# Altium schematic symbol library kmilo17pet-NSC_Interface.SchLib: 1433 symbols (part 44 of 51)
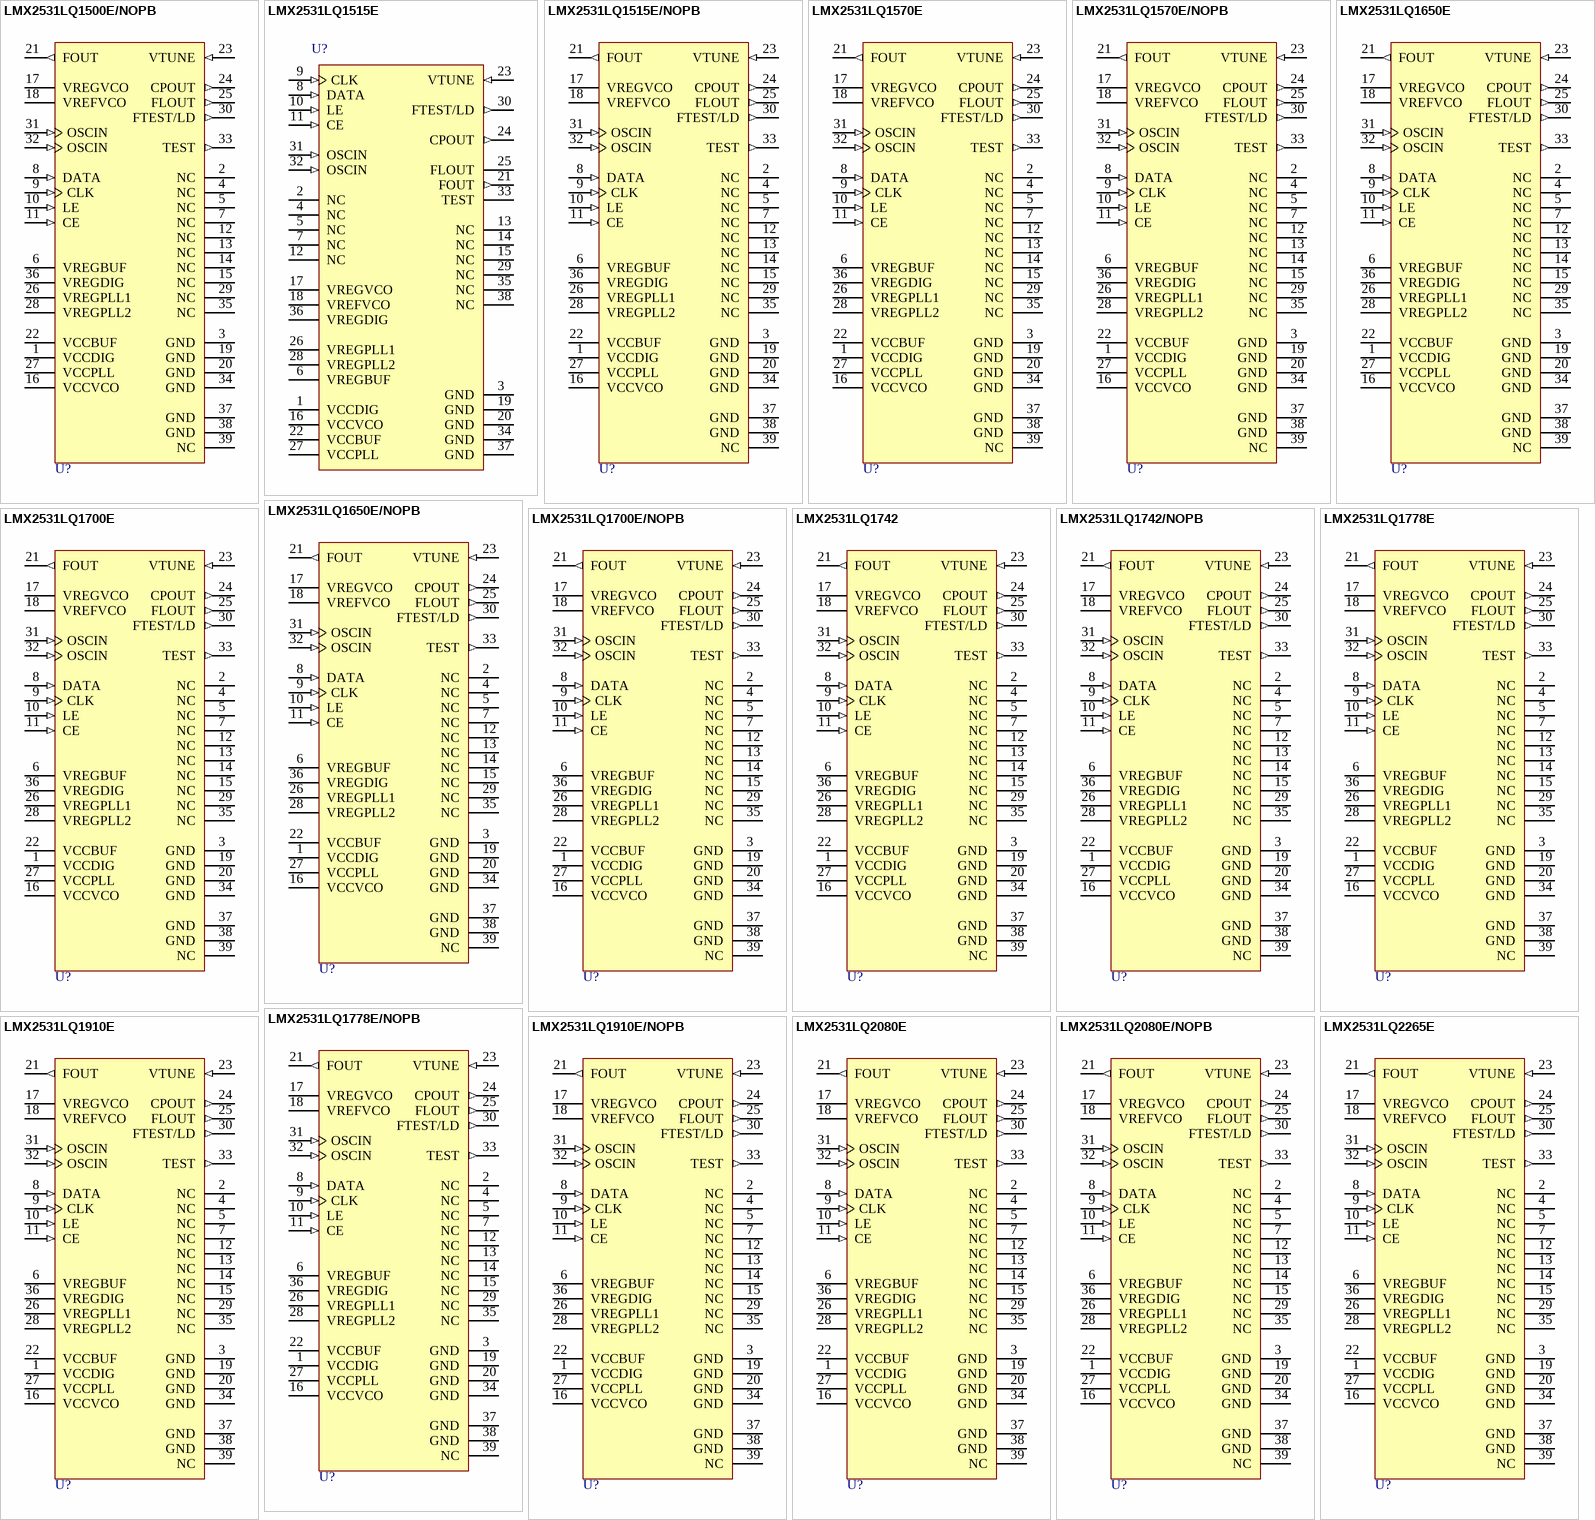
[diagram p167: symbols LMX2531LQ1500E/NOPB to LMX2531LQ2265E]

## LMX2531LQ1515E/NOPB
designator U?
High Performance Frequency Synthesizer System with Integrated VCO, 36-pin LLP, Pb-Free; PartNumber: LMX2531LQ1515E/NOPB; Manufacturer: National Semiconductor; PackageTopMarking: NS*UZXYTTE#*311515E; PowerWise: Y; CompType: Interface IC; DatasheetVersion: Dec-2009; PackageVersion: revC, Oct-2003; PackageReference: LQA36A; PackageDescription: LLP, Plastic, Quad, 6 x 6 x 0.8mm Body, 36 Lead, 0.5mm Pitch, Custom; RoHS: Y; PinCount: 36; High-Reliability: Y; ComponentLink1Description: Manufacturer URL; ComponentLink1URL: http://www.national.com/; ComponentLink2Description: LMX2531 Datasheet; ComponentLink2URL: http://www.national.com/ds/LM/LMX2531.pdf; ComponentLink3Description: LMX2531 Web Page; ComponentLink3URL: http://www.national.com/pf/LM/LMX2531.html; ComponentLink4Description: LQA36D Package Page; ComponentLink4URL: http://www.national.com/packaging/folders/lqa36d.html
footprint LQA36A (PQFN, 36-Leads, Body 6x6mm, Pitch 0.5mm, NSC Recommended)
pins: 1 VCCDIG (power), 2 NC, 3 GND (power), 4 NC, 5 NC, 6 VREGBUF (power), 7 NC, 8 DATA (in), 9 CLK (in), 10 LE (in), 11 CE (in), 12 NC, 13 NC, 14 NC, 15 NC, 16 VCCVCO (power), 17 VREGVCO (power), 18 VREFVCO (power), 19 GND (power), 20 GND (power), 21 FOUT (out), 22 VCCBUF (power), 23 VTUNE (in), 24 CPOUT (out), 25 FLOUT (out), 26 VREGPLL1 (power), 27 VCCPLL (power), 28 VREGPLL2 (power), 29 NC, 30 FTEST/LD (out), 31 OSCIN (in), 32 OSCIN (in), 33 TEST (out), 34 GND (power), 35 NC, 36 VREGDIG (power), 37 GND (power), 38 GND (power), 39 NC

## LMX2531LQ1570E
designator U?
High Performance Frequency Synthesizer System with Integrated VCO, 38-pin LLP; PartNumber: LMX2531LQ1570E; Manufacturer: National Semiconductor; PackageTopMarking: NS*UZXYTT*311570EB; PowerWise: Y; CompType: Interface IC; DatasheetVersion: Dec-2009; PackageVersion: revC, Oct-2003; PackageReference: LQA36A; PackageDescription: LLP, Plastic, Quad, 6 x 6 x 0.8mm Body, 36 Lead, 0.5mm Pitch, Custom; RoHS: Y; PinCount: 36; High-Reliability: Y; ComponentLink1Description: Manufacturer URL; ComponentLink1URL: http://www.national.com/; ComponentLink2Description: LMX2531LQ1570EDatasheet; ComponentLink2URL: http://www.national.com/ds/LM/LMX2531.pdf; ComponentLink3Description: LMX2531LQ1570E Web Page; ComponentLink3URL: http://www.national.com/pf/LM/LMX2531LQ1570E.html; ComponentLink4Description: LQA36A Package Page; ComponentLink4URL: http://www.national.com/packaging/folders/lqa36a.html
footprint LQA36A (PQFN, 36-Leads, Body 6x6mm, Pitch 0.5mm, NSC Recommended)
pins: 1 VCCDIG (power), 2 NC, 3 GND (power), 4 NC, 5 NC, 6 VREGBUF (power), 7 NC, 8 DATA (in), 9 CLK (in), 10 LE (in), 11 CE (in), 12 NC, 13 NC, 14 NC, 15 NC, 16 VCCVCO (power), 17 VREGVCO (power), 18 VREFVCO (power), 19 GND (power), 20 GND (power), 21 FOUT (out), 22 VCCBUF (power), 23 VTUNE (in), 24 CPOUT (out), 25 FLOUT (out), 26 VREGPLL1 (power), 27 VCCPLL (power), 28 VREGPLL2 (power), 29 NC, 30 FTEST/LD (out), 31 OSCIN (in), 32 OSCIN (in), 33 TEST (out), 34 GND (power), 35 NC, 36 VREGDIG (power), 37 GND (power), 38 GND (power), 39 NC

## LMX2531LQ1570E/NOPB
designator U?
High Performance Frequency Synthesizer System with Integrated VCO, 36-pin LLP, Pb-Free; PartNumber: LMX2531LQ1570E/NOPB; Manufacturer: National Semiconductor; PackageTopMarking: NS*UZXYTTE#*311570EB; PowerWise: Y; CompType: Interface IC; DatasheetVersion: Dec-2009; PackageVersion: revC, Oct-2003; PackageReference: LQA36A; PackageDescription: LLP, Plastic, Quad, 6 x 6 x 0.8mm Body, 36 Lead, 0.5mm Pitch, Custom; RoHS: Y; PinCount: 36; High-Reliability: Y; ComponentLink1Description: Manufacturer URL; ComponentLink1URL: http://www.national.com/; ComponentLink2Description: LMX2531 Datasheet; ComponentLink2URL: http://www.national.com/ds/LM/LMX2531.pdf; ComponentLink3Description: LMX2531 Web Page; ComponentLink3URL: http://www.national.com/pf/LM/LMX2531.html; ComponentLink4Description: LQA36A Package Page; ComponentLink4URL: http://www.national.com/packaging/folders/lqa36a.html
footprint LQA36A (PQFN, 36-Leads, Body 6x6mm, Pitch 0.5mm, NSC Recommended)
pins: 1 VCCDIG (power), 2 NC, 3 GND (power), 4 NC, 5 NC, 6 VREGBUF (power), 7 NC, 8 DATA (in), 9 CLK (in), 10 LE (in), 11 CE (in), 12 NC, 13 NC, 14 NC, 15 NC, 16 VCCVCO (power), 17 VREGVCO (power), 18 VREFVCO (power), 19 GND (power), 20 GND (power), 21 FOUT (out), 22 VCCBUF (power), 23 VTUNE (in), 24 CPOUT (out), 25 FLOUT (out), 26 VREGPLL1 (power), 27 VCCPLL (power), 28 VREGPLL2 (power), 29 NC, 30 FTEST/LD (out), 31 OSCIN (in), 32 OSCIN (in), 33 TEST (out), 34 GND (power), 35 NC, 36 VREGDIG (power), 37 GND (power), 38 GND (power), 39 NC

## LMX2531LQ1650E
designator U?
High Performance Frequency Synthesizer System with Integrated VCO, 38-pin LLP; PartNumber: LMX2531LQ1650E; Manufacturer: National Semiconductor; PackageTopMarking: NS*UZXYTT*311650EA; PowerWise: Y; CompType: Interface IC; DatasheetVersion: Dec-2009; PackageVersion: revC, Oct-2003; PackageReference: LQA36A; PackageDescription: LLP, Plastic, Quad, 6 x 6 x 0.8mm Body, 36 Lead, 0.5mm Pitch, Custom; RoHS: Y; PinCount: 36; High-Reliability: Y; ComponentLink1Description: Manufacturer URL; ComponentLink1URL: http://www.national.com/; ComponentLink2Description: LMX2531LQ1650EDatasheet; ComponentLink2URL: http://www.national.com/ds/LM/LMX2531.pdf; ComponentLink3Description: LMX2531LQ1650E Web Page; ComponentLink3URL: http://www.national.com/pf/LM/LMX2531LQ1650E.html; ComponentLink4Description: LQA36A Package Page; ComponentLink4URL: http://www.national.com/packaging/folders/lqa36a.html
footprint LQA36A (PQFN, 36-Leads, Body 6x6mm, Pitch 0.5mm, NSC Recommended)
pins: 1 VCCDIG (power), 2 NC, 3 GND (power), 4 NC, 5 NC, 6 VREGBUF (power), 7 NC, 8 DATA (in), 9 CLK (in), 10 LE (in), 11 CE (in), 12 NC, 13 NC, 14 NC, 15 NC, 16 VCCVCO (power), 17 VREGVCO (power), 18 VREFVCO (power), 19 GND (power), 20 GND (power), 21 FOUT (out), 22 VCCBUF (power), 23 VTUNE (in), 24 CPOUT (out), 25 FLOUT (out), 26 VREGPLL1 (power), 27 VCCPLL (power), 28 VREGPLL2 (power), 29 NC, 30 FTEST/LD (out), 31 OSCIN (in), 32 OSCIN (in), 33 TEST (out), 34 GND (power), 35 NC, 36 VREGDIG (power), 37 GND (power), 38 GND (power), 39 NC

## LMX2531LQ1650E/NOPB
designator U?
High Performance Frequency Synthesizer System with Integrated VCO, 36-pin LLP, Pb-Free; PartNumber: LMX2531LQ1650E/NOPB; Manufacturer: National Semiconductor; PackageTopMarking: NS*UZXYTTE#*311650EA; PowerWise: Y; CompType: Interface IC; DatasheetVersion: Dec-2009; PackageVersion: revC, Oct-2003; PackageReference: LQA36A; PackageDescription: LLP, Plastic, Quad, 6 x 6 x 0.8mm Body, 36 Lead, 0.5mm Pitch, Custom; RoHS: Y; PinCount: 36; High-Reliability: Y; ComponentLink1Description: Manufacturer URL; ComponentLink1URL: http://www.national.com/; ComponentLink2Description: LMX2531 Datasheet; ComponentLink2URL: http://www.national.com/ds/LM/LMX2531.pdf; ComponentLink3Description: LMX2531 Web Page; ComponentLink3URL: http://www.national.com/pf/LM/LMX2531.html; ComponentLink4Description: LQA36A Package Page; ComponentLink4URL: http://www.national.com/packaging/folders/lqa36a.html
footprint LQA36A (PQFN, 36-Leads, Body 6x6mm, Pitch 0.5mm, NSC Recommended)
pins: 1 VCCDIG (power), 2 NC, 3 GND (power), 4 NC, 5 NC, 6 VREGBUF (power), 7 NC, 8 DATA (in), 9 CLK (in), 10 LE (in), 11 CE (in), 12 NC, 13 NC, 14 NC, 15 NC, 16 VCCVCO (power), 17 VREGVCO (power), 18 VREFVCO (power), 19 GND (power), 20 GND (power), 21 FOUT (out), 22 VCCBUF (power), 23 VTUNE (in), 24 CPOUT (out), 25 FLOUT (out), 26 VREGPLL1 (power), 27 VCCPLL (power), 28 VREGPLL2 (power), 29 NC, 30 FTEST/LD (out), 31 OSCIN (in), 32 OSCIN (in), 33 TEST (out), 34 GND (power), 35 NC, 36 VREGDIG (power), 37 GND (power), 38 GND (power), 39 NC

## LMX2531LQ1700E
designator U?
High Performance Frequency Synthesizer System with Integrated VCO, 38-pin LLP; PartNumber: LMX2531LQ1700E; Manufacturer: National Semiconductor; PackageTopMarking: NS*UZXYTT*311700EB; PowerWise: Y; CompType: Interface IC; DatasheetVersion: Dec-2009; PackageVersion: revC, Oct-2003; PackageReference: LQA36A; PackageDescription: LLP, Plastic, Quad, 6 x 6 x 0.8mm Body, 36 Lead, 0.5mm Pitch, Custom; RoHS: Y; PinCount: 36; High-Reliability: Y; ComponentLink1Description: Manufacturer URL; ComponentLink1URL: http://www.national.com/; ComponentLink2Description: LMX2531LQ1700EDatasheet; ComponentLink2URL: http://www.national.com/ds/LM/LMX2531.pdf; ComponentLink3Description: LMX2531LQ1700E Web Page; ComponentLink3URL: http://www.national.com/pf/LM/LMX2531LQ1700E.html; ComponentLink4Description: LQA36A Package Page; ComponentLink4URL: http://www.national.com/packaging/folders/lqa36a.html
footprint LQA36A (PQFN, 36-Leads, Body 6x6mm, Pitch 0.5mm, NSC Recommended)
pins: 1 VCCDIG (power), 2 NC, 3 GND (power), 4 NC, 5 NC, 6 VREGBUF (power), 7 NC, 8 DATA (in), 9 CLK (in), 10 LE (in), 11 CE (in), 12 NC, 13 NC, 14 NC, 15 NC, 16 VCCVCO (power), 17 VREGVCO (power), 18 VREFVCO (power), 19 GND (power), 20 GND (power), 21 FOUT (out), 22 VCCBUF (power), 23 VTUNE (in), 24 CPOUT (out), 25 FLOUT (out), 26 VREGPLL1 (power), 27 VCCPLL (power), 28 VREGPLL2 (power), 29 NC, 30 FTEST/LD (out), 31 OSCIN (in), 32 OSCIN (in), 33 TEST (out), 34 GND (power), 35 NC, 36 VREGDIG (power), 37 GND (power), 38 GND (power), 39 NC

## LMX2531LQ1700E/NOPB
designator U?
High Performance Frequency Synthesizer System with Integrated VCO, 36-pin LLP, Pb-Free; PartNumber: LMX2531LQ1700E/NOPB; Manufacturer: National Semiconductor; PackageTopMarking: NS*UZXYTTE#*311700EB; PowerWise: Y; CompType: Interface IC; DatasheetVersion: Dec-2009; PackageVersion: revC, Oct-2003; PackageReference: LQA36A; PackageDescription: LLP, Plastic, Quad, 6 x 6 x 0.8mm Body, 36 Lead, 0.5mm Pitch, Custom; RoHS: Y; PinCount: 36; High-Reliability: Y; ComponentLink1Description: Manufacturer URL; ComponentLink1URL: http://www.national.com/; ComponentLink2Description: LMX2531 Datasheet; ComponentLink2URL: http://www.national.com/ds/LM/LMX2531.pdf; ComponentLink3Description: LMX2531 Web Page; ComponentLink3URL: http://www.national.com/pf/LM/LMX2531.html; ComponentLink4Description: LQA36A Package Page; ComponentLink4URL: http://www.national.com/packaging/folders/lqa36a.html
footprint LQA36A (PQFN, 36-Leads, Body 6x6mm, Pitch 0.5mm, NSC Recommended)
pins: 1 VCCDIG (power), 2 NC, 3 GND (power), 4 NC, 5 NC, 6 VREGBUF (power), 7 NC, 8 DATA (in), 9 CLK (in), 10 LE (in), 11 CE (in), 12 NC, 13 NC, 14 NC, 15 NC, 16 VCCVCO (power), 17 VREGVCO (power), 18 VREFVCO (power), 19 GND (power), 20 GND (power), 21 FOUT (out), 22 VCCBUF (power), 23 VTUNE (in), 24 CPOUT (out), 25 FLOUT (out), 26 VREGPLL1 (power), 27 VCCPLL (power), 28 VREGPLL2 (power), 29 NC, 30 FTEST/LD (out), 31 OSCIN (in), 32 OSCIN (in), 33 TEST (out), 34 GND (power), 35 NC, 36 VREGDIG (power), 37 GND (power), 38 GND (power), 39 NC

## LMX2531LQ1742
designator U?
High Performance Frequency Synthesizer System with Integrated VCO, 38-pin LLP; PartNumber: LMX2531LQ1742; Manufacturer: National Semiconductor; PackageTopMarking: NS*UZXYTT*311742A; PowerWise: Y; CompType: Interface IC; DatasheetVersion: Dec-2009; PackageVersion: revC, Oct-2003; PackageReference: LQA36A; PackageDescription: LLP, Plastic, Quad, 6 x 6 x 0.8mm Body, 36 Lead, 0.5mm Pitch, Custom; RoHS: Y; PinCount: 36; High-Reliability: Y; ComponentLink1Description: Manufacturer URL; ComponentLink1URL: http://www.national.com/; ComponentLink2Description: LMX2531LQ1742Datasheet; ComponentLink2URL: http://www.national.com/ds/LM/LMX2531.pdf; ComponentLink3Description: LMX2531LQ1742 Web Page; ComponentLink3URL: http://www.national.com/pf/LM/LMX2531LQ1742.html; ComponentLink4Description: LQA36A Package Page; ComponentLink4URL: http://www.national.com/packaging/folders/lqa36a.html
footprint LQA36A (PQFN, 36-Leads, Body 6x6mm, Pitch 0.5mm, NSC Recommended)
pins: 1 VCCDIG (power), 2 NC, 3 GND (power), 4 NC, 5 NC, 6 VREGBUF (power), 7 NC, 8 DATA (in), 9 CLK (in), 10 LE (in), 11 CE (in), 12 NC, 13 NC, 14 NC, 15 NC, 16 VCCVCO (power), 17 VREGVCO (power), 18 VREFVCO (power), 19 GND (power), 20 GND (power), 21 FOUT (out), 22 VCCBUF (power), 23 VTUNE (in), 24 CPOUT (out), 25 FLOUT (out), 26 VREGPLL1 (power), 27 VCCPLL (power), 28 VREGPLL2 (power), 29 NC, 30 FTEST/LD (out), 31 OSCIN (in), 32 OSCIN (in), 33 TEST (out), 34 GND (power), 35 NC, 36 VREGDIG (power), 37 GND (power), 38 GND (power), 39 NC

## LMX2531LQ1742/NOPB
designator U?
High Performance Frequency Synthesizer System with Integrated VCO, 36-pin LLP, Pb-Free; PartNumber: LMX2531LQ1742/NOPB; Manufacturer: National Semiconductor; PackageTopMarking: NS*UZXYTTE#*311742A; PowerWise: Y; CompType: Interface IC; DatasheetVersion: Dec-2009; PackageVersion: revC, Oct-2003; PackageReference: LQA36A; PackageDescription: LLP, Plastic, Quad, 6 x 6 x 0.8mm Body, 36 Lead, 0.5mm Pitch, Custom; RoHS: Y; PinCount: 36; High-Reliability: Y; ComponentLink1Description: Manufacturer URL; ComponentLink1URL: http://www.national.com/; ComponentLink2Description: LMX2531 Datasheet; ComponentLink2URL: http://www.national.com/ds/LM/LMX2531.pdf; ComponentLink3Description: LMX2531 Web Page; ComponentLink3URL: http://www.national.com/pf/LM/LMX2531.html; ComponentLink4Description: LQA36A Package Page; ComponentLink4URL: http://www.national.com/packaging/folders/lqa36a.html
footprint LQA36A (PQFN, 36-Leads, Body 6x6mm, Pitch 0.5mm, NSC Recommended)
pins: 1 VCCDIG (power), 2 NC, 3 GND (power), 4 NC, 5 NC, 6 VREGBUF (power), 7 NC, 8 DATA (in), 9 CLK (in), 10 LE (in), 11 CE (in), 12 NC, 13 NC, 14 NC, 15 NC, 16 VCCVCO (power), 17 VREGVCO (power), 18 VREFVCO (power), 19 GND (power), 20 GND (power), 21 FOUT (out), 22 VCCBUF (power), 23 VTUNE (in), 24 CPOUT (out), 25 FLOUT (out), 26 VREGPLL1 (power), 27 VCCPLL (power), 28 VREGPLL2 (power), 29 NC, 30 FTEST/LD (out), 31 OSCIN (in), 32 OSCIN (in), 33 TEST (out), 34 GND (power), 35 NC, 36 VREGDIG (power), 37 GND (power), 38 GND (power), 39 NC

## LMX2531LQ1778E
designator U?
High Performance Frequency Synthesizer System with Integrated VCO, 38-pin LLP; PartNumber: LMX2531LQ1778E; Manufacturer: National Semiconductor; PackageTopMarking: NS*UZXYTT*311778EA; PowerWise: Y; CompType: Interface IC; DatasheetVersion: Dec-2009; PackageVersion: revC, Oct-2003; PackageReference: LQA36A; PackageDescription: LLP, Plastic, Quad, 6 x 6 x 0.8mm Body, 36 Lead, 0.5mm Pitch, Custom; RoHS: Y; PinCount: 36; High-Reliability: Y; ComponentLink1Description: Manufacturer URL; ComponentLink1URL: http://www.national.com/; ComponentLink2Description: LMX2531LQ1778EDatasheet; ComponentLink2URL: http://www.national.com/ds/LM/LMX2531.pdf; ComponentLink3Description: LMX2531LQ1778E Web Page; ComponentLink3URL: http://www.national.com/pf/LM/LMX2531LQ1778E.html; ComponentLink4Description: LQA36A Package Page; ComponentLink4URL: http://www.national.com/packaging/folders/lqa36a.html
footprint LQA36A (PQFN, 36-Leads, Body 6x6mm, Pitch 0.5mm, NSC Recommended)
pins: 1 VCCDIG (power), 2 NC, 3 GND (power), 4 NC, 5 NC, 6 VREGBUF (power), 7 NC, 8 DATA (in), 9 CLK (in), 10 LE (in), 11 CE (in), 12 NC, 13 NC, 14 NC, 15 NC, 16 VCCVCO (power), 17 VREGVCO (power), 18 VREFVCO (power), 19 GND (power), 20 GND (power), 21 FOUT (out), 22 VCCBUF (power), 23 VTUNE (in), 24 CPOUT (out), 25 FLOUT (out), 26 VREGPLL1 (power), 27 VCCPLL (power), 28 VREGPLL2 (power), 29 NC, 30 FTEST/LD (out), 31 OSCIN (in), 32 OSCIN (in), 33 TEST (out), 34 GND (power), 35 NC, 36 VREGDIG (power), 37 GND (power), 38 GND (power), 39 NC

## LMX2531LQ1778E/NOPB
designator U?
High Performance Frequency Synthesizer System with Integrated VCO, 36-pin LLP, Pb-Free; PartNumber: LMX2531LQ1778E/NOPB; Manufacturer: National Semiconductor; PackageTopMarking: NS*UZXYTTE#*311778EA; PowerWise: Y; CompType: Interface IC; DatasheetVersion: Dec-2009; PackageVersion: revC, Oct-2003; PackageReference: LQA36A; PackageDescription: LLP, Plastic, Quad, 6 x 6 x 0.8mm Body, 36 Lead, 0.5mm Pitch, Custom; RoHS: Y; PinCount: 36; High-Reliability: Y; ComponentLink1Description: Manufacturer URL; ComponentLink1URL: http://www.national.com/; ComponentLink2Description: LMX2531 Datasheet; ComponentLink2URL: http://www.national.com/ds/LM/LMX2531.pdf; ComponentLink3Description: LMX2531 Web Page; ComponentLink3URL: http://www.national.com/pf/LM/LMX2531.html; ComponentLink4Description: LQA36A Package Page; ComponentLink4URL: http://www.national.com/packaging/folders/lqa36a.html
footprint LQA36A (PQFN, 36-Leads, Body 6x6mm, Pitch 0.5mm, NSC Recommended)
pins: 1 VCCDIG (power), 2 NC, 3 GND (power), 4 NC, 5 NC, 6 VREGBUF (power), 7 NC, 8 DATA (in), 9 CLK (in), 10 LE (in), 11 CE (in), 12 NC, 13 NC, 14 NC, 15 NC, 16 VCCVCO (power), 17 VREGVCO (power), 18 VREFVCO (power), 19 GND (power), 20 GND (power), 21 FOUT (out), 22 VCCBUF (power), 23 VTUNE (in), 24 CPOUT (out), 25 FLOUT (out), 26 VREGPLL1 (power), 27 VCCPLL (power), 28 VREGPLL2 (power), 29 NC, 30 FTEST/LD (out), 31 OSCIN (in), 32 OSCIN (in), 33 TEST (out), 34 GND (power), 35 NC, 36 VREGDIG (power), 37 GND (power), 38 GND (power), 39 NC

## LMX2531LQ1910E
designator U?
High Performance Frequency Synthesizer System with Integrated VCO, 38-pin LLP; PartNumber: LMX2531LQ1910E; Manufacturer: National Semiconductor; PackageTopMarking: NS*UZXYTT*311910EB; PowerWise: Y; CompType: Interface IC; DatasheetVersion: Dec-2009; PackageVersion: revC, Oct-2003; PackageReference: LQA36A; PackageDescription: LLP, Plastic, Quad, 6 x 6 x 0.8mm Body, 36 Lead, 0.5mm Pitch, Custom; RoHS: Y; PinCount: 36; High-Reliability: Y; ComponentLink1Description: Manufacturer URL; ComponentLink1URL: http://www.national.com/; ComponentLink2Description: LMX2531LQ1910EDatasheet; ComponentLink2URL: http://www.national.com/ds/LM/LMX2531.pdf; ComponentLink3Description: LMX2531LQ1910E Web Page; ComponentLink3URL: http://www.national.com/pf/LM/LMX2531LQ1910E.html; ComponentLink4Description: LQA36A Package Page; ComponentLink4URL: http://www.national.com/packaging/folders/lqa36a.html
footprint LQA36A (PQFN, 36-Leads, Body 6x6mm, Pitch 0.5mm, NSC Recommended)
pins: 1 VCCDIG (power), 2 NC, 3 GND (power), 4 NC, 5 NC, 6 VREGBUF (power), 7 NC, 8 DATA (in), 9 CLK (in), 10 LE (in), 11 CE (in), 12 NC, 13 NC, 14 NC, 15 NC, 16 VCCVCO (power), 17 VREGVCO (power), 18 VREFVCO (power), 19 GND (power), 20 GND (power), 21 FOUT (out), 22 VCCBUF (power), 23 VTUNE (in), 24 CPOUT (out), 25 FLOUT (out), 26 VREGPLL1 (power), 27 VCCPLL (power), 28 VREGPLL2 (power), 29 NC, 30 FTEST/LD (out), 31 OSCIN (in), 32 OSCIN (in), 33 TEST (out), 34 GND (power), 35 NC, 36 VREGDIG (power), 37 GND (power), 38 GND (power), 39 NC

## LMX2531LQ1910E/NOPB
designator U?
High Performance Frequency Synthesizer System with Integrated VCO, 36-pin LLP, Pb-Free; PartNumber: LMX2531LQ1910E/NOPB; Manufacturer: National Semiconductor; PackageTopMarking: NS*UZXYTTE#*311910EB; PowerWise: Y; CompType: Interface IC; DatasheetVersion: Dec-2009; PackageVersion: revC, Oct-2003; PackageReference: LQA36A; PackageDescription: LLP, Plastic, Quad, 6 x 6 x 0.8mm Body, 36 Lead, 0.5mm Pitch, Custom; RoHS: Y; PinCount: 36; High-Reliability: Y; ComponentLink1Description: Manufacturer URL; ComponentLink1URL: http://www.national.com/; ComponentLink2Description: LMX2531 Datasheet; ComponentLink2URL: http://www.national.com/ds/LM/LMX2531.pdf; ComponentLink3Description: LMX2531 Web Page; ComponentLink3URL: http://www.national.com/pf/LM/LMX2531.html; ComponentLink4Description: LQA36A Package Page; ComponentLink4URL: http://www.national.com/packaging/folders/lqa36a.html
footprint LQA36A (PQFN, 36-Leads, Body 6x6mm, Pitch 0.5mm, NSC Recommended)
pins: 1 VCCDIG (power), 2 NC, 3 GND (power), 4 NC, 5 NC, 6 VREGBUF (power), 7 NC, 8 DATA (in), 9 CLK (in), 10 LE (in), 11 CE (in), 12 NC, 13 NC, 14 NC, 15 NC, 16 VCCVCO (power), 17 VREGVCO (power), 18 VREFVCO (power), 19 GND (power), 20 GND (power), 21 FOUT (out), 22 VCCBUF (power), 23 VTUNE (in), 24 CPOUT (out), 25 FLOUT (out), 26 VREGPLL1 (power), 27 VCCPLL (power), 28 VREGPLL2 (power), 29 NC, 30 FTEST/LD (out), 31 OSCIN (in), 32 OSCIN (in), 33 TEST (out), 34 GND (power), 35 NC, 36 VREGDIG (power), 37 GND (power), 38 GND (power), 39 NC

## LMX2531LQ2080E
designator U?
High Performance Frequency Synthesizer System with Integrated VCO, 38-pin LLP; PartNumber: LMX2531LQ2080E; Manufacturer: National Semiconductor; PackageTopMarking: NS*UZXYTT*312080EB; PowerWise: Y; CompType: Interface IC; DatasheetVersion: Dec-2009; PackageVersion: revC, Oct-2003; PackageReference: LQA36A; PackageDescription: LLP, Plastic, Quad, 6 x 6 x 0.8mm Body, 36 Lead, 0.5mm Pitch, Custom; RoHS: Y; PinCount: 36; High-Reliability: Y; ComponentLink1Description: Manufacturer URL; ComponentLink1URL: http://www.national.com/; ComponentLink2Description: LMX2531LQ2080EDatasheet; ComponentLink2URL: http://www.national.com/ds/LM/LMX2531.pdf; ComponentLink3Description: LMX2531LQ2080E Web Page; ComponentLink3URL: http://www.national.com/pf/LM/LMX2531LQ2080E.html; ComponentLink4Description: LQA36A Package Page; ComponentLink4URL: http://www.national.com/packaging/folders/lqa36a.html
footprint LQA36A (PQFN, 36-Leads, Body 6x6mm, Pitch 0.5mm, NSC Recommended)
pins: 1 VCCDIG (power), 2 NC, 3 GND (power), 4 NC, 5 NC, 6 VREGBUF (power), 7 NC, 8 DATA (in), 9 CLK (in), 10 LE (in), 11 CE (in), 12 NC, 13 NC, 14 NC, 15 NC, 16 VCCVCO (power), 17 VREGVCO (power), 18 VREFVCO (power), 19 GND (power), 20 GND (power), 21 FOUT (out), 22 VCCBUF (power), 23 VTUNE (in), 24 CPOUT (out), 25 FLOUT (out), 26 VREGPLL1 (power), 27 VCCPLL (power), 28 VREGPLL2 (power), 29 NC, 30 FTEST/LD (out), 31 OSCIN (in), 32 OSCIN (in), 33 TEST (out), 34 GND (power), 35 NC, 36 VREGDIG (power), 37 GND (power), 38 GND (power), 39 NC

## LMX2531LQ2080E/NOPB
designator U?
High Performance Frequency Synthesizer System with Integrated VCO, 36-pin LLP, Pb-Free; PartNumber: LMX2531LQ2080E/NOPB; Manufacturer: National Semiconductor; PackageTopMarking: NS*UZXYTTE#*312080EB; PowerWise: Y; CompType: Interface IC; DatasheetVersion: Dec-2009; PackageVersion: revC, Oct-2003; PackageReference: LQA36A; PackageDescription: LLP, Plastic, Quad, 6 x 6 x 0.8mm Body, 36 Lead, 0.5mm Pitch, Custom; RoHS: Y; PinCount: 36; High-Reliability: Y; ComponentLink1Description: Manufacturer URL; ComponentLink1URL: http://www.national.com/; ComponentLink2Description: LMX2531 Datasheet; ComponentLink2URL: http://www.national.com/ds/LM/LMX2531.pdf; ComponentLink3Description: LMX2531 Web Page; ComponentLink3URL: http://www.national.com/pf/LM/LMX2531.html; ComponentLink4Description: LQA36A Package Page; ComponentLink4URL: http://www.national.com/packaging/folders/lqa36a.html
footprint LQA36A (PQFN, 36-Leads, Body 6x6mm, Pitch 0.5mm, NSC Recommended)
pins: 1 VCCDIG (power), 2 NC, 3 GND (power), 4 NC, 5 NC, 6 VREGBUF (power), 7 NC, 8 DATA (in), 9 CLK (in), 10 LE (in), 11 CE (in), 12 NC, 13 NC, 14 NC, 15 NC, 16 VCCVCO (power), 17 VREGVCO (power), 18 VREFVCO (power), 19 GND (power), 20 GND (power), 21 FOUT (out), 22 VCCBUF (power), 23 VTUNE (in), 24 CPOUT (out), 25 FLOUT (out), 26 VREGPLL1 (power), 27 VCCPLL (power), 28 VREGPLL2 (power), 29 NC, 30 FTEST/LD (out), 31 OSCIN (in), 32 OSCIN (in), 33 TEST (out), 34 GND (power), 35 NC, 36 VREGDIG (power), 37 GND (power), 38 GND (power), 39 NC

## LMX2531LQ2265E
designator U?
High Performance Frequency Synthesizer System with Integrated VCO, 38-pin LLP; PartNumber: LMX2531LQ2265E; Manufacturer: National Semiconductor; PackageTopMarking: NS*UZXYTT*312265ED; PowerWise: Y; CompType: Interface IC; DatasheetVersion: Dec-2009; PackageVersion: revC, Oct-2003; PackageReference: LQA36A; PackageDescription: LLP, Plastic, Quad, 6 x 6 x 0.8mm Body, 36 Lead, 0.5mm Pitch, Custom; RoHS: N; PinCount: 36; High-Reliability: Y; ComponentLink1Description: Manufacturer URL; ComponentLink1URL: http://www.national.com/; ComponentLink2Description: LMX2531LQ2265EDatasheet; ComponentLink2URL: http://www.national.com/ds/LM/LMX2531.pdf; ComponentLink3Description: LMX2531LQ2265E Web Page; ComponentLink3URL: http://www.national.com/pf/LM/LMX2531LQ2265E.html; ComponentLink4Description: LQA36A Package Page; ComponentLink4URL: http://www.national.com/packaging/folders/lqa36a.html
footprint LQA36A (PQFN, 36-Leads, Body 6x6mm, Pitch 0.5mm, NSC Recommended)
pins: 1 VCCDIG (power), 2 NC, 3 GND (power), 4 NC, 5 NC, 6 VREGBUF (power), 7 NC, 8 DATA (in), 9 CLK (in), 10 LE (in), 11 CE (in), 12 NC, 13 NC, 14 NC, 15 NC, 16 VCCVCO (power), 17 VREGVCO (power), 18 VREFVCO (power), 19 GND (power), 20 GND (power), 21 FOUT (out), 22 VCCBUF (power), 23 VTUNE (in), 24 CPOUT (out), 25 FLOUT (out), 26 VREGPLL1 (power), 27 VCCPLL (power), 28 VREGPLL2 (power), 29 NC, 30 FTEST/LD (out), 31 OSCIN (in), 32 OSCIN (in), 33 TEST (out), 34 GND (power), 35 NC, 36 VREGDIG (power), 37 GND (power), 38 GND (power), 39 NC

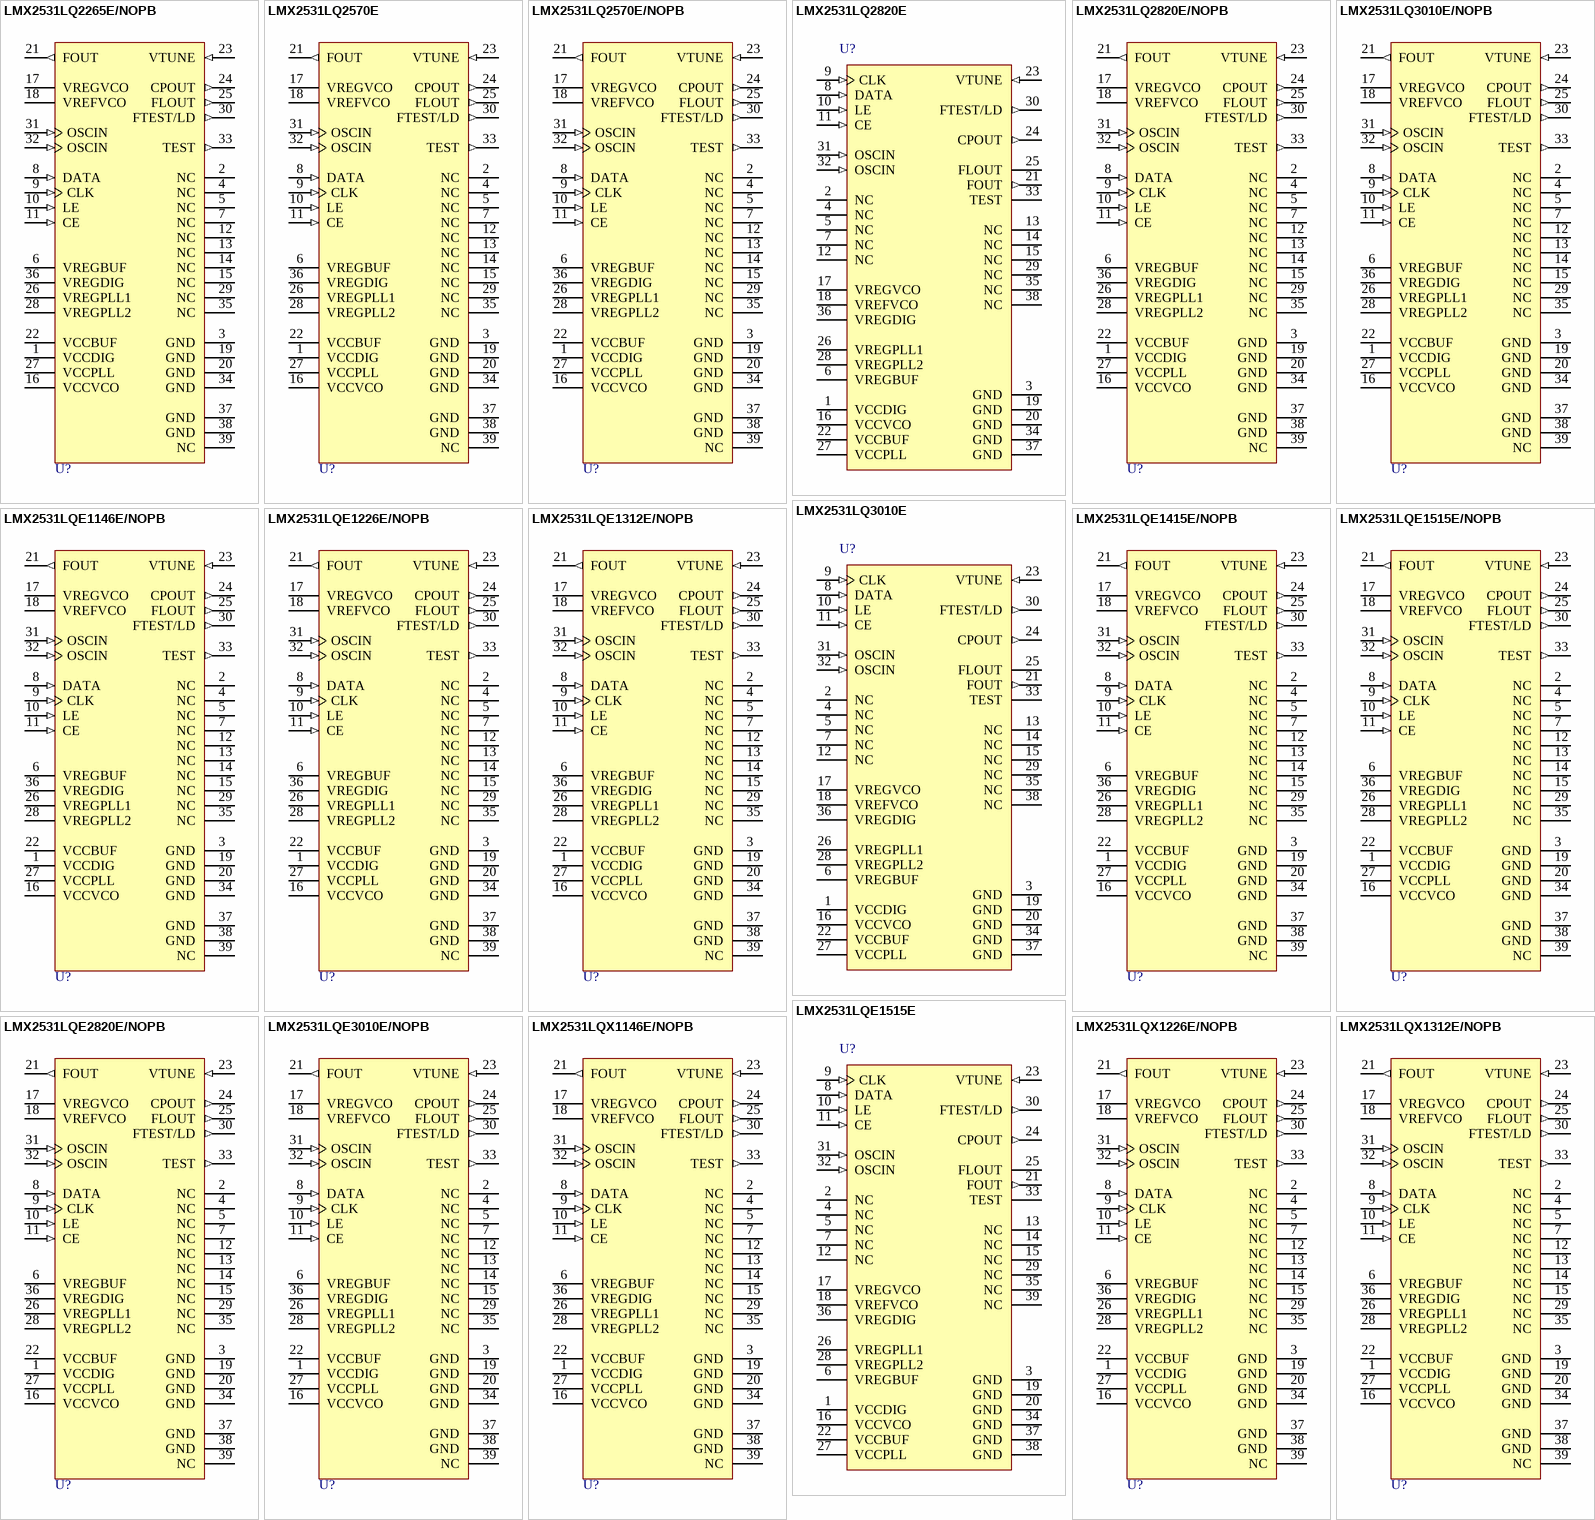
[diagram p107: symbols LMX2531LQ2265E/NOPB to LMX2531LQX1312E/NOPB]

## LMX2531LQ2265E/NOPB
designator U?
High Performance Frequency Synthesizer System with Integrated VCO, 36-pin LLP, Pb-Free; PartNumber: LMX2531LQ2265E/NOPB; Manufacturer: National Semiconductor; PackageTopMarking: NS*UZXYTTE#*312265ED; PowerWise: Y; CompType: Interface IC; DatasheetVersion: Dec-2009; PackageVersion: revC, Oct-2003; PackageReference: LQA36A; PackageDescription: LLP, Plastic, Quad, 6 x 6 x 0.8mm Body, 36 Lead, 0.5mm Pitch, Custom; RoHS: Y; PinCount: 36; High-Reliability: Y; ComponentLink1Description: Manufacturer URL; ComponentLink1URL: http://www.national.com/; ComponentLink2Description: LMX2531 Datasheet; ComponentLink2URL: http://www.national.com/ds/LM/LMX2531.pdf; ComponentLink3Description: LMX2531 Web Page; ComponentLink3URL: http://www.national.com/pf/LM/LMX2531.html; ComponentLink4Description: LQA36A Package Page; ComponentLink4URL: http://www.national.com/packaging/folders/lqa36a.html
footprint LQA36A (PQFN, 36-Leads, Body 6x6mm, Pitch 0.5mm, NSC Recommended)
pins: 1 VCCDIG (power), 2 NC, 3 GND (power), 4 NC, 5 NC, 6 VREGBUF (power), 7 NC, 8 DATA (in), 9 CLK (in), 10 LE (in), 11 CE (in), 12 NC, 13 NC, 14 NC, 15 NC, 16 VCCVCO (power), 17 VREGVCO (power), 18 VREFVCO (power), 19 GND (power), 20 GND (power), 21 FOUT (out), 22 VCCBUF (power), 23 VTUNE (in), 24 CPOUT (out), 25 FLOUT (out), 26 VREGPLL1 (power), 27 VCCPLL (power), 28 VREGPLL2 (power), 29 NC, 30 FTEST/LD (out), 31 OSCIN (in), 32 OSCIN (in), 33 TEST (out), 34 GND (power), 35 NC, 36 VREGDIG (power), 37 GND (power), 38 GND (power), 39 NC

## LMX2531LQ2570E
designator U?
High Performance Frequency Synthesizer System with Integrated VCO, 38-pin LLP; PartNumber: LMX2531LQ2570E; Manufacturer: National Semiconductor; PackageTopMarking: NS*UZXYTT*312570EC; PowerWise: Y; CompType: Interface IC; DatasheetVersion: Dec-2009; PackageVersion: revC, Oct-2003; PackageReference: LQA36A; PackageDescription: LLP, Plastic, Quad, 6 x 6 x 0.8mm Body, 36 Lead, 0.5mm Pitch, Custom; RoHS: Y; PinCount: 36; High-Reliability: Y; ComponentLink1Description: Manufacturer URL; ComponentLink1URL: http://www.national.com/; ComponentLink2Description: LMX2531LQ2570EDatasheet; ComponentLink2URL: http://www.national.com/ds/LM/LMX2531.pdf; ComponentLink3Description: LMX2531LQ2570E Web Page; ComponentLink3URL: http://www.national.com/pf/LM/LMX2531LQ2570E.html; ComponentLink4Description: LQA36A Package Page; ComponentLink4URL: http://www.national.com/packaging/folders/lqa36a.html
footprint LQA36A (PQFN, 36-Leads, Body 6x6mm, Pitch 0.5mm, NSC Recommended)
pins: 1 VCCDIG (power), 2 NC, 3 GND (power), 4 NC, 5 NC, 6 VREGBUF (power), 7 NC, 8 DATA (in), 9 CLK (in), 10 LE (in), 11 CE (in), 12 NC, 13 NC, 14 NC, 15 NC, 16 VCCVCO (power), 17 VREGVCO (power), 18 VREFVCO (power), 19 GND (power), 20 GND (power), 21 FOUT (out), 22 VCCBUF (power), 23 VTUNE (in), 24 CPOUT (out), 25 FLOUT (out), 26 VREGPLL1 (power), 27 VCCPLL (power), 28 VREGPLL2 (power), 29 NC, 30 FTEST/LD (out), 31 OSCIN (in), 32 OSCIN (in), 33 TEST (out), 34 GND (power), 35 NC, 36 VREGDIG (power), 37 GND (power), 38 GND (power), 39 NC

## LMX2531LQ2570E/NOPB
designator U?
High Performance Frequency Synthesizer System with Integrated VCO, 36-pin LLP, Pb-Free; PartNumber: LMX2531LQ2570E/NOPB; Manufacturer: National Semiconductor; PackageTopMarking: NS*UZXYTTE#*312570EC; PowerWise: Y; CompType: Interface IC; DatasheetVersion: Dec-2009; PackageVersion: revC, Oct-2003; PackageReference: LQA36A; PackageDescription: LLP, Plastic, Quad, 6 x 6 x 0.8mm Body, 36 Lead, 0.5mm Pitch, Custom; RoHS: Y; PinCount: 36; High-Reliability: Y; ComponentLink1Description: Manufacturer URL; ComponentLink1URL: http://www.national.com/; ComponentLink2Description: LMX2531 Datasheet; ComponentLink2URL: http://www.national.com/ds/LM/LMX2531.pdf; ComponentLink3Description: LMX2531 Web Page; ComponentLink3URL: http://www.national.com/pf/LM/LMX2531.html; ComponentLink4Description: LQA36A Package Page; ComponentLink4URL: http://www.national.com/packaging/folders/lqa36a.html
footprint LQA36A (PQFN, 36-Leads, Body 6x6mm, Pitch 0.5mm, NSC Recommended)
pins: 1 VCCDIG (power), 2 NC, 3 GND (power), 4 NC, 5 NC, 6 VREGBUF (power), 7 NC, 8 DATA (in), 9 CLK (in), 10 LE (in), 11 CE (in), 12 NC, 13 NC, 14 NC, 15 NC, 16 VCCVCO (power), 17 VREGVCO (power), 18 VREFVCO (power), 19 GND (power), 20 GND (power), 21 FOUT (out), 22 VCCBUF (power), 23 VTUNE (in), 24 CPOUT (out), 25 FLOUT (out), 26 VREGPLL1 (power), 27 VCCPLL (power), 28 VREGPLL2 (power), 29 NC, 30 FTEST/LD (out), 31 OSCIN (in), 32 OSCIN (in), 33 TEST (out), 34 GND (power), 35 NC, 36 VREGDIG (power), 37 GND (power), 38 GND (power), 39 NC

## LMX2531LQ2820E
designator U?
High Performance Frequency Synthesizer System with Integrated VCO, 36-pin LLP; PartNumber: LMX2531LQ2820E; Manufacturer: National Semiconductor; PackageTopMarking: NS*UZXYTT*312820E; PowerWise: Y; CompType: Interface IC; DatasheetVersion: Dec-2009; PackageVersion: revB, Feb-2008; PackageReference: LQA36D; PackageDescription: LLP, Plastic, Quad, 6 x 6 x 0.8mm Body, 36 Lead, 0.5mm Pitch, Custom; RoHS: Y; PinCount: 36; High-Reliability: Y; ComponentLink1Description: Manufacturer URL; ComponentLink1URL: http://www.national.com/; ComponentLink2Description: LMX2531LQ2820E Datasheet; ComponentLink2URL: http://www.national.com/ds/LM/LMX2531.pdf; ComponentLink3Description: LMX2531LQ2820E Web Page; ComponentLink3URL: http://www.national.com/pf/LM/LMX2531LQ2820E.html; ComponentLink4Description: LQA36A Package Page; ComponentLink4URL: http://www.national.com/packaging/folders/lqa36a.html
footprint LQA36D (PQFN, 36-Leads, Body 6x6mm, Pitch 0.5mm, NSC Recommended)
pins: 1 VCCDIG (power), 2 NC, 3 GND (power), 4 NC, 5 NC, 6 VREGBUF (power), 7 NC, 8 DATA (in), 9 CLK (in), 10 LE (in), 11 CE (in), 12 NC, 13 NC, 14 NC, 15 NC, 16 VCCVCO (power), 17 VREGVCO (power), 18 VREFVCO (power), 19 GND (power), 20 GND (power), 21 FOUT (out), 22 VCCBUF (power), 23 VTUNE (in), 24 CPOUT (out), 25 FLOUT (oc), 26 VREGPLL1 (power), 27 VCCPLL (power), 28 VREGPLL2 (power), 29 NC, 30 FTEST/LD (out), 31 OSCIN (in), 32 OSCIN (in), 33 TEST, 34 GND (power), 35 NC, 36 VREGDIG (power), 37 GND, 38 NC

## LMX2531LQ2820E/NOPB
designator U?
High Performance Frequency Synthesizer System with Integrated VCO, 36-pin LLP, Pb-Free; PartNumber: LMX2531LQ2820E/NOPB; Manufacturer: National Semiconductor; PackageTopMarking: NS*UZXYTTE#*312820E; PowerWise: Y; CompType: Interface IC; DatasheetVersion: Dec-2009; PackageVersion: revC, Oct-2003; PackageReference: LQA36A; PackageDescription: LLP, Plastic, Quad, 6 x 6 x 0.8mm Body, 36 Lead, 0.5mm Pitch, Custom; RoHS: Y; PinCount: 36; High-Reliability: Y; ComponentLink1Description: Manufacturer URL; ComponentLink1URL: http://www.national.com/; ComponentLink2Description: LMX2531 Datasheet; ComponentLink2URL: http://www.national.com/ds/LM/LMX2531.pdf; ComponentLink3Description: LMX2531 Web Page; ComponentLink3URL: http://www.national.com/pf/LM/LMX2531.html; ComponentLink4Description: LQA36D Package Page; ComponentLink4URL: http://www.national.com/packaging/folders/lqa36d.html
footprint LQA36A (PQFN, 36-Leads, Body 6x6mm, Pitch 0.5mm, NSC Recommended)
pins: 1 VCCDIG (power), 2 NC, 3 GND (power), 4 NC, 5 NC, 6 VREGBUF (power), 7 NC, 8 DATA (in), 9 CLK (in), 10 LE (in), 11 CE (in), 12 NC, 13 NC, 14 NC, 15 NC, 16 VCCVCO (power), 17 VREGVCO (power), 18 VREFVCO (power), 19 GND (power), 20 GND (power), 21 FOUT (out), 22 VCCBUF (power), 23 VTUNE (in), 24 CPOUT (out), 25 FLOUT (out), 26 VREGPLL1 (power), 27 VCCPLL (power), 28 VREGPLL2 (power), 29 NC, 30 FTEST/LD (out), 31 OSCIN (in), 32 OSCIN (in), 33 TEST (out), 34 GND (power), 35 NC, 36 VREGDIG (power), 37 GND (power), 38 GND (power), 39 NC

## LMX2531LQ3010E
designator U?
High Performance Frequency Synthesizer System with Integrated VCO, 36-pin LLP; PartNumber: LMX2531LQ3010E; Manufacturer: National Semiconductor; PackageTopMarking: NS*UZXYTT*313010E; PowerWise: Y; CompType: Interface IC; DatasheetVersion: Dec-2009; PackageVersion: revB, Feb-2008; PackageReference: LQA36D; PackageDescription: LLP, Plastic, Quad, 6 x 6 x 0.8mm Body, 36 Lead, 0.5mm Pitch, Custom; RoHS: Y; PinCount: 36; High-Reliability: Y; ComponentLink1Description: Manufacturer URL; ComponentLink1URL: http://www.national.com/; ComponentLink2Description: LMX2531LQ3010E Datasheet; ComponentLink2URL: http://www.national.com/ds/LM/LMX2531.pdf; ComponentLink3Description: LMX2531LQ3010E Web Page; ComponentLink3URL: http://www.national.com/pf/LM/LMX2531LQ3010E.html; ComponentLink4Description: LQA36A Package Page; ComponentLink4URL: http://www.national.com/packaging/folders/lqa36a.html
footprint LQA36D (PQFN, 36-Leads, Body 6x6mm, Pitch 0.5mm, NSC Recommended)
pins: 1 VCCDIG (power), 2 NC, 3 GND (power), 4 NC, 5 NC, 6 VREGBUF (power), 7 NC, 8 DATA (in), 9 CLK (in), 10 LE (in), 11 CE (in), 12 NC, 13 NC, 14 NC, 15 NC, 16 VCCVCO (power), 17 VREGVCO (power), 18 VREFVCO (power), 19 GND (power), 20 GND (power), 21 FOUT (out), 22 VCCBUF (power), 23 VTUNE (in), 24 CPOUT (out), 25 FLOUT (oc), 26 VREGPLL1 (power), 27 VCCPLL (power), 28 VREGPLL2 (power), 29 NC, 30 FTEST/LD (out), 31 OSCIN (in), 32 OSCIN (in), 33 TEST, 34 GND (power), 35 NC, 36 VREGDIG (power), 37 GND, 38 NC

## LMX2531LQ3010E/NOPB
designator U?
High Performance Frequency Synthesizer System with Integrated VCO, 36-pin LLP, Pb-Free; PartNumber: LMX2531LQ3010E/NOPB; Manufacturer: National Semiconductor; PackageTopMarking: NS*UZXYTTE#*313010E; PowerWise: Y; CompType: Interface IC; DatasheetVersion: Dec-2009; PackageVersion: revC, Oct-2003; PackageReference: LQA36A; PackageDescription: LLP, Plastic, Quad, 6 x 6 x 0.8mm Body, 36 Lead, 0.5mm Pitch, Custom; RoHS: Y; PinCount: 36; High-Reliability: Y; ComponentLink1Description: Manufacturer URL; ComponentLink1URL: http://www.national.com/; ComponentLink2Description: LMX2531 Datasheet; ComponentLink2URL: http://www.national.com/ds/LM/LMX2531.pdf; ComponentLink3Description: LMX2531 Web Page; ComponentLink3URL: http://www.national.com/pf/LM/LMX2531.html; ComponentLink4Description: LQA36D Package Page; ComponentLink4URL: http://www.national.com/packaging/folders/lqa36d.html
footprint LQA36A (PQFN, 36-Leads, Body 6x6mm, Pitch 0.5mm, NSC Recommended)
pins: 1 VCCDIG (power), 2 NC, 3 GND (power), 4 NC, 5 NC, 6 VREGBUF (power), 7 NC, 8 DATA (in), 9 CLK (in), 10 LE (in), 11 CE (in), 12 NC, 13 NC, 14 NC, 15 NC, 16 VCCVCO (power), 17 VREGVCO (power), 18 VREFVCO (power), 19 GND (power), 20 GND (power), 21 FOUT (out), 22 VCCBUF (power), 23 VTUNE (in), 24 CPOUT (out), 25 FLOUT (out), 26 VREGPLL1 (power), 27 VCCPLL (power), 28 VREGPLL2 (power), 29 NC, 30 FTEST/LD (out), 31 OSCIN (in), 32 OSCIN (in), 33 TEST (out), 34 GND (power), 35 NC, 36 VREGDIG (power), 37 GND (power), 38 GND (power), 39 NC

## LMX2531LQE1146E/NOPB
designator U?
High Performance Frequency Synthesizer System with Integrated VCO, 36-pin LLP, Pb-Free; PartNumber: LMX2531LQE1146E/NOPB; Manufacturer: National Semiconductor; PackageTopMarking: NS*UZXYTTE#*311146E; PowerWise: Y; CompType: Interface IC; DatasheetVersion: Dec-2009; PackageVersion: revC, Oct-2003; PackageReference: LQA36A; PackageDescription: LLP, Plastic, Quad, 6 x 6 x 0.8mm Body, 36 Lead, 0.5mm Pitch, Custom; RoHS: Y; PinCount: 36; High-Reliability: Y; ComponentLink1Description: Manufacturer URL; ComponentLink1URL: http://www.national.com/; ComponentLink2Description: LMX2531 Datasheet; ComponentLink2URL: http://www.national.com/ds/LM/LMX2531.pdf; ComponentLink3Description: LMX2531 Web Page; ComponentLink3URL: http://www.national.com/pf/LM/LMX2531.html; ComponentLink4Description: LQA36D Package Page; ComponentLink4URL: http://www.national.com/packaging/folders/lqa36d.html
footprint LQA36A (PQFN, 36-Leads, Body 6x6mm, Pitch 0.5mm, NSC Recommended)
pins: 1 VCCDIG (power), 2 NC, 3 GND (power), 4 NC, 5 NC, 6 VREGBUF (power), 7 NC, 8 DATA (in), 9 CLK (in), 10 LE (in), 11 CE (in), 12 NC, 13 NC, 14 NC, 15 NC, 16 VCCVCO (power), 17 VREGVCO (power), 18 VREFVCO (power), 19 GND (power), 20 GND (power), 21 FOUT (out), 22 VCCBUF (power), 23 VTUNE (in), 24 CPOUT (out), 25 FLOUT (out), 26 VREGPLL1 (power), 27 VCCPLL (power), 28 VREGPLL2 (power), 29 NC, 30 FTEST/LD (out), 31 OSCIN (in), 32 OSCIN (in), 33 TEST (out), 34 GND (power), 35 NC, 36 VREGDIG (power), 37 GND (power), 38 GND (power), 39 NC

## LMX2531LQE1226E/NOPB
designator U?
High Performance Frequency Synthesizer System with Integrated VCO, 36-pin LLP, Pb-Free; PartNumber: LMX2531LQE1226E/NOPB; Manufacturer: National Semiconductor; PackageTopMarking: NS*UZXYTTE#*311226E; PowerWise: Y; CompType: Interface IC; DatasheetVersion: Dec-2009; PackageVersion: revC, Oct-2003; PackageReference: LQA36A; PackageDescription: LLP, Plastic, Quad, 6 x 6 x 0.8mm Body, 36 Lead, 0.5mm Pitch, Custom; RoHS: Y; PinCount: 36; High-Reliability: Y; ComponentLink1Description: Manufacturer URL; ComponentLink1URL: http://www.national.com/; ComponentLink2Description: LMX2531 Datasheet; ComponentLink2URL: http://www.national.com/ds/LM/LMX2531.pdf; ComponentLink3Description: LMX2531 Web Page; ComponentLink3URL: http://www.national.com/pf/LM/LMX2531.html; ComponentLink4Description: LQA36D Package Page; ComponentLink4URL: http://www.national.com/packaging/folders/lqa36d.html
footprint LQA36A (PQFN, 36-Leads, Body 6x6mm, Pitch 0.5mm, NSC Recommended)
pins: 1 VCCDIG (power), 2 NC, 3 GND (power), 4 NC, 5 NC, 6 VREGBUF (power), 7 NC, 8 DATA (in), 9 CLK (in), 10 LE (in), 11 CE (in), 12 NC, 13 NC, 14 NC, 15 NC, 16 VCCVCO (power), 17 VREGVCO (power), 18 VREFVCO (power), 19 GND (power), 20 GND (power), 21 FOUT (out), 22 VCCBUF (power), 23 VTUNE (in), 24 CPOUT (out), 25 FLOUT (out), 26 VREGPLL1 (power), 27 VCCPLL (power), 28 VREGPLL2 (power), 29 NC, 30 FTEST/LD (out), 31 OSCIN (in), 32 OSCIN (in), 33 TEST (out), 34 GND (power), 35 NC, 36 VREGDIG (power), 37 GND (power), 38 GND (power), 39 NC

## LMX2531LQE1312E/NOPB
designator U?
High Performance Frequency Synthesizer System with Integrated VCO, 36-pin LLP, Pb-Free; PartNumber: LMX2531LQE1312E/NOPB; Manufacturer: National Semiconductor; PackageTopMarking: NS*UZXYTTE#*311312E; PowerWise: Y; CompType: Interface IC; DatasheetVersion: Dec-2009; PackageVersion: revC, Oct-2003; PackageReference: LQA36A; PackageDescription: LLP, Plastic, Quad, 6 x 6 x 0.8mm Body, 36 Lead, 0.5mm Pitch, Custom; RoHS: Y; PinCount: 36; High-Reliability: Y; ComponentLink1Description: Manufacturer URL; ComponentLink1URL: http://www.national.com/; ComponentLink2Description: LMX2531 Datasheet; ComponentLink2URL: http://www.national.com/ds/LM/LMX2531.pdf; ComponentLink3Description: LMX2531 Web Page; ComponentLink3URL: http://www.national.com/pf/LM/LMX2531.html; ComponentLink4Description: LQA36D Package Page; ComponentLink4URL: http://www.national.com/packaging/folders/lqa36d.html
footprint LQA36A (PQFN, 36-Leads, Body 6x6mm, Pitch 0.5mm, NSC Recommended)
pins: 1 VCCDIG (power), 2 NC, 3 GND (power), 4 NC, 5 NC, 6 VREGBUF (power), 7 NC, 8 DATA (in), 9 CLK (in), 10 LE (in), 11 CE (in), 12 NC, 13 NC, 14 NC, 15 NC, 16 VCCVCO (power), 17 VREGVCO (power), 18 VREFVCO (power), 19 GND (power), 20 GND (power), 21 FOUT (out), 22 VCCBUF (power), 23 VTUNE (in), 24 CPOUT (out), 25 FLOUT (out), 26 VREGPLL1 (power), 27 VCCPLL (power), 28 VREGPLL2 (power), 29 NC, 30 FTEST/LD (out), 31 OSCIN (in), 32 OSCIN (in), 33 TEST (out), 34 GND (power), 35 NC, 36 VREGDIG (power), 37 GND (power), 38 GND (power), 39 NC

## LMX2531LQE1415E/NOPB
designator U?
High Performance Frequency Synthesizer System with Integrated VCO, 36-pin LLP, Pb-Free; PartNumber: LMX2531LQE1415E/NOPB; Manufacturer: National Semiconductor; PackageTopMarking: NS*UZXYTTE#*311415E; PowerWise: Y; CompType: Interface IC; DatasheetVersion: Dec-2009; PackageVersion: revC, Oct-2003; PackageReference: LQA36A; PackageDescription: LLP, Plastic, Quad, 6 x 6 x 0.8mm Body, 36 Lead, 0.5mm Pitch, Custom; RoHS: Y; PinCount: 36; High-Reliability: Y; ComponentLink1Description: Manufacturer URL; ComponentLink1URL: http://www.national.com/; ComponentLink2Description: LMX2531 Datasheet; ComponentLink2URL: http://www.national.com/ds/LM/LMX2531.pdf; ComponentLink3Description: LMX2531 Web Page; ComponentLink3URL: http://www.national.com/pf/LM/LMX2531.html; ComponentLink4Description: LQA36D Package Page; ComponentLink4URL: http://www.national.com/packaging/folders/lqa36d.html
footprint LQA36A (PQFN, 36-Leads, Body 6x6mm, Pitch 0.5mm, NSC Recommended)
pins: 1 VCCDIG (power), 2 NC, 3 GND (power), 4 NC, 5 NC, 6 VREGBUF (power), 7 NC, 8 DATA (in), 9 CLK (in), 10 LE (in), 11 CE (in), 12 NC, 13 NC, 14 NC, 15 NC, 16 VCCVCO (power), 17 VREGVCO (power), 18 VREFVCO (power), 19 GND (power), 20 GND (power), 21 FOUT (out), 22 VCCBUF (power), 23 VTUNE (in), 24 CPOUT (out), 25 FLOUT (out), 26 VREGPLL1 (power), 27 VCCPLL (power), 28 VREGPLL2 (power), 29 NC, 30 FTEST/LD (out), 31 OSCIN (in), 32 OSCIN (in), 33 TEST (out), 34 GND (power), 35 NC, 36 VREGDIG (power), 37 GND (power), 38 GND (power), 39 NC

## LMX2531LQE1515E
designator U?
High Performance Frequency Synthesizer System with Integrated VCO, 38-pin LLP; PartNumber: LMX2531LQE1515E; Manufacturer: National Semiconductor; PackageTopMarking: NS*UZXYTT* 311515E; PowerWise: Y; CompType: Interface IC; DatasheetVersion: Dec-2009; PackageVersion: revC, Oct-2003; PackageReference: LQA36A; PackageDescription: LLP, Plastic, Quad, 6 x 6 x 0.8mm Body, 36 Lead, 0.5mm Pitch, Custom; RoHS: Y; PinCount: 36; High-Reliability: Y; ComponentLink1Description: Manufacturer URL; ComponentLink1URL: http://www.national.com/; ComponentLink2Description: LMX2531LQ1515E Datasheet; ComponentLink2URL: http://www.national.com/ds/LM/LMX2531.pdf; ComponentLink3Description: LMX2531LQ1515E Web Page; ComponentLink3URL: http://www.national.com/pf/LM/LMX2531LQ1515E.html; ComponentLink4Description: LQA36A Package Page; ComponentLink4URL: http://www.national.com/packaging/folders/lqa36a.html
footprint LQA36A (PQFN, 36-Leads, Body 6x6mm, Pitch 0.5mm, NSC Recommended)
pins: 1 VCCDIG (power), 2 NC, 3 GND (power), 4 NC, 5 NC, 6 VREGBUF (power), 7 NC, 8 DATA (in), 9 CLK (in), 10 LE (in), 11 CE (in), 12 NC, 13 NC, 14 NC, 15 NC, 16 VCCVCO (power), 17 VREGVCO (power), 18 VREFVCO (power), 19 GND (power), 20 GND (power), 21 FOUT (out), 22 VCCBUF (power), 23 VTUNE (in), 24 CPOUT (out), 25 FLOUT (oc), 26 VREGPLL1 (power), 27 VCCPLL (power), 28 VREGPLL2 (power), 29 NC, 30 FTEST/LD (out), 31 OSCIN (in), 32 OSCIN (in), 33 TEST, 34 GND (power), 35 NC, 36 VREGDIG (power), 37 GND, 38 GND, 39 NC

## LMX2531LQE1515E/NOPB
designator U?
High Performance Frequency Synthesizer System with Integrated VCO, 36-pin LLP, Pb-Free; PartNumber: LMX2531LQE1515E/NOPB; Manufacturer: National Semiconductor; PackageTopMarking: NS*UZXYTTE#*311515E; PowerWise: Y; CompType: Interface IC; DatasheetVersion: Dec-2009; PackageVersion: revC, Oct-2003; PackageReference: LQA36A; PackageDescription: LLP, Plastic, Quad, 6 x 6 x 0.8mm Body, 36 Lead, 0.5mm Pitch, Custom; RoHS: Y; PinCount: 36; High-Reliability: Y; ComponentLink1Description: Manufacturer URL; ComponentLink1URL: http://www.national.com/; ComponentLink2Description: LMX2531 Datasheet; ComponentLink2URL: http://www.national.com/ds/LM/LMX2531.pdf; ComponentLink3Description: LMX2531 Web Page; ComponentLink3URL: http://www.national.com/pf/LM/LMX2531.html; ComponentLink4Description: LQA36D Package Page; ComponentLink4URL: http://www.national.com/packaging/folders/lqa36d.html
footprint LQA36A (PQFN, 36-Leads, Body 6x6mm, Pitch 0.5mm, NSC Recommended)
pins: 1 VCCDIG (power), 2 NC, 3 GND (power), 4 NC, 5 NC, 6 VREGBUF (power), 7 NC, 8 DATA (in), 9 CLK (in), 10 LE (in), 11 CE (in), 12 NC, 13 NC, 14 NC, 15 NC, 16 VCCVCO (power), 17 VREGVCO (power), 18 VREFVCO (power), 19 GND (power), 20 GND (power), 21 FOUT (out), 22 VCCBUF (power), 23 VTUNE (in), 24 CPOUT (out), 25 FLOUT (out), 26 VREGPLL1 (power), 27 VCCPLL (power), 28 VREGPLL2 (power), 29 NC, 30 FTEST/LD (out), 31 OSCIN (in), 32 OSCIN (in), 33 TEST (out), 34 GND (power), 35 NC, 36 VREGDIG (power), 37 GND (power), 38 GND (power), 39 NC

## LMX2531LQE2820E/NOPB
designator U?
High Performance Frequency Synthesizer System with Integrated VCO, 36-pin LLP, Pb-Free; PartNumber: LMX2531LQE2820E/NOPB; Manufacturer: National Semiconductor; PackageTopMarking: NS*UZXYTTE#*312820E; PowerWise: Y; CompType: Interface IC; DatasheetVersion: Dec-2009; PackageVersion: revC, Oct-2003; PackageReference: LQA36A; PackageDescription: LLP, Plastic, Quad, 6 x 6 x 0.8mm Body, 36 Lead, 0.5mm Pitch, Custom; RoHS: Y; PinCount: 36; High-Reliability: Y; ComponentLink1Description: Manufacturer URL; ComponentLink1URL: http://www.national.com/; ComponentLink2Description: LMX2531 Datasheet; ComponentLink2URL: http://www.national.com/ds/LM/LMX2531.pdf; ComponentLink3Description: LMX2531 Web Page; ComponentLink3URL: http://www.national.com/pf/LM/LMX2531.html; ComponentLink4Description: LQA36D Package Page; ComponentLink4URL: http://www.national.com/packaging/folders/lqa36d.html
footprint LQA36A (PQFN, 36-Leads, Body 6x6mm, Pitch 0.5mm, NSC Recommended)
pins: 1 VCCDIG (power), 2 NC, 3 GND (power), 4 NC, 5 NC, 6 VREGBUF (power), 7 NC, 8 DATA (in), 9 CLK (in), 10 LE (in), 11 CE (in), 12 NC, 13 NC, 14 NC, 15 NC, 16 VCCVCO (power), 17 VREGVCO (power), 18 VREFVCO (power), 19 GND (power), 20 GND (power), 21 FOUT (out), 22 VCCBUF (power), 23 VTUNE (in), 24 CPOUT (out), 25 FLOUT (out), 26 VREGPLL1 (power), 27 VCCPLL (power), 28 VREGPLL2 (power), 29 NC, 30 FTEST/LD (out), 31 OSCIN (in), 32 OSCIN (in), 33 TEST (out), 34 GND (power), 35 NC, 36 VREGDIG (power), 37 GND (power), 38 GND (power), 39 NC

## LMX2531LQE3010E/NOPB
designator U?
High Performance Frequency Synthesizer System with Integrated VCO, 36-pin LLP, Pb-Free; PartNumber: LMX2531LQE3010E/NOPB; Manufacturer: National Semiconductor; PackageTopMarking: NS*UZXYTTE#*313010E; PowerWise: Y; CompType: Interface IC; DatasheetVersion: Dec-2009; PackageVersion: revC, Oct-2003; PackageReference: LQA36A; PackageDescription: LLP, Plastic, Quad, 6 x 6 x 0.8mm Body, 36 Lead, 0.5mm Pitch, Custom; RoHS: Y; PinCount: 36; High-Reliability: Y; ComponentLink1Description: Manufacturer URL; ComponentLink1URL: http://www.national.com/; ComponentLink2Description: LMX2531 Datasheet; ComponentLink2URL: http://www.national.com/ds/LM/LMX2531.pdf; ComponentLink3Description: LMX2531 Web Page; ComponentLink3URL: http://www.national.com/pf/LM/LMX2531.html; ComponentLink4Description: LQA36D Package Page; ComponentLink4URL: http://www.national.com/packaging/folders/lqa36d.html
footprint LQA36A (PQFN, 36-Leads, Body 6x6mm, Pitch 0.5mm, NSC Recommended)
pins: 1 VCCDIG (power), 2 NC, 3 GND (power), 4 NC, 5 NC, 6 VREGBUF (power), 7 NC, 8 DATA (in), 9 CLK (in), 10 LE (in), 11 CE (in), 12 NC, 13 NC, 14 NC, 15 NC, 16 VCCVCO (power), 17 VREGVCO (power), 18 VREFVCO (power), 19 GND (power), 20 GND (power), 21 FOUT (out), 22 VCCBUF (power), 23 VTUNE (in), 24 CPOUT (out), 25 FLOUT (out), 26 VREGPLL1 (power), 27 VCCPLL (power), 28 VREGPLL2 (power), 29 NC, 30 FTEST/LD (out), 31 OSCIN (in), 32 OSCIN (in), 33 TEST (out), 34 GND (power), 35 NC, 36 VREGDIG (power), 37 GND (power), 38 GND (power), 39 NC

## LMX2531LQX1146E/NOPB
designator U?
High Performance Frequency Synthesizer System with Integrated VCO, 36-pin LLP, Pb-Free; PartNumber: LMX2531LQX1146E/NOPB; Manufacturer: National Semiconductor; PackageTopMarking: NS*UZXYTTE#*311146E; PowerWise: Y; CompType: Interface IC; DatasheetVersion: Dec-2009; PackageVersion: revC, Oct-2003; PackageReference: LQA36A; PackageDescription: LLP, Plastic, Quad, 6 x 6 x 0.8mm Body, 36 Lead, 0.5mm Pitch, Custom; RoHS: Y; PinCount: 36; High-Reliability: Y; ComponentLink1Description: Manufacturer URL; ComponentLink1URL: http://www.national.com/; ComponentLink2Description: LMX2531 Datasheet; ComponentLink2URL: http://www.national.com/ds/LM/LMX2531.pdf; ComponentLink3Description: LMX2531 Web Page; ComponentLink3URL: http://www.national.com/pf/LM/LMX2531.html; ComponentLink4Description: LQA36D Package Page; ComponentLink4URL: http://www.national.com/packaging/folders/lqa36d.html
footprint LQA36A (PQFN, 36-Leads, Body 6x6mm, Pitch 0.5mm, NSC Recommended)
pins: 1 VCCDIG (power), 2 NC, 3 GND (power), 4 NC, 5 NC, 6 VREGBUF (power), 7 NC, 8 DATA (in), 9 CLK (in), 10 LE (in), 11 CE (in), 12 NC, 13 NC, 14 NC, 15 NC, 16 VCCVCO (power), 17 VREGVCO (power), 18 VREFVCO (power), 19 GND (power), 20 GND (power), 21 FOUT (out), 22 VCCBUF (power), 23 VTUNE (in), 24 CPOUT (out), 25 FLOUT (out), 26 VREGPLL1 (power), 27 VCCPLL (power), 28 VREGPLL2 (power), 29 NC, 30 FTEST/LD (out), 31 OSCIN (in), 32 OSCIN (in), 33 TEST (out), 34 GND (power), 35 NC, 36 VREGDIG (power), 37 GND (power), 38 GND (power), 39 NC